# Altium footprint library Weather_PcbLib1.PcbLib: 20 footprints (part 1 of 2)
Each footprint in its own frame and in the unit in brackets; x right, y up, seen from the top. Pads: shape width x height; smd on the part's side, far side on the other; paste and mask are expansions set on the pad; w line width, h text height; cw(c..) or ccw(c..) is an arc to the next point about the centre after c.
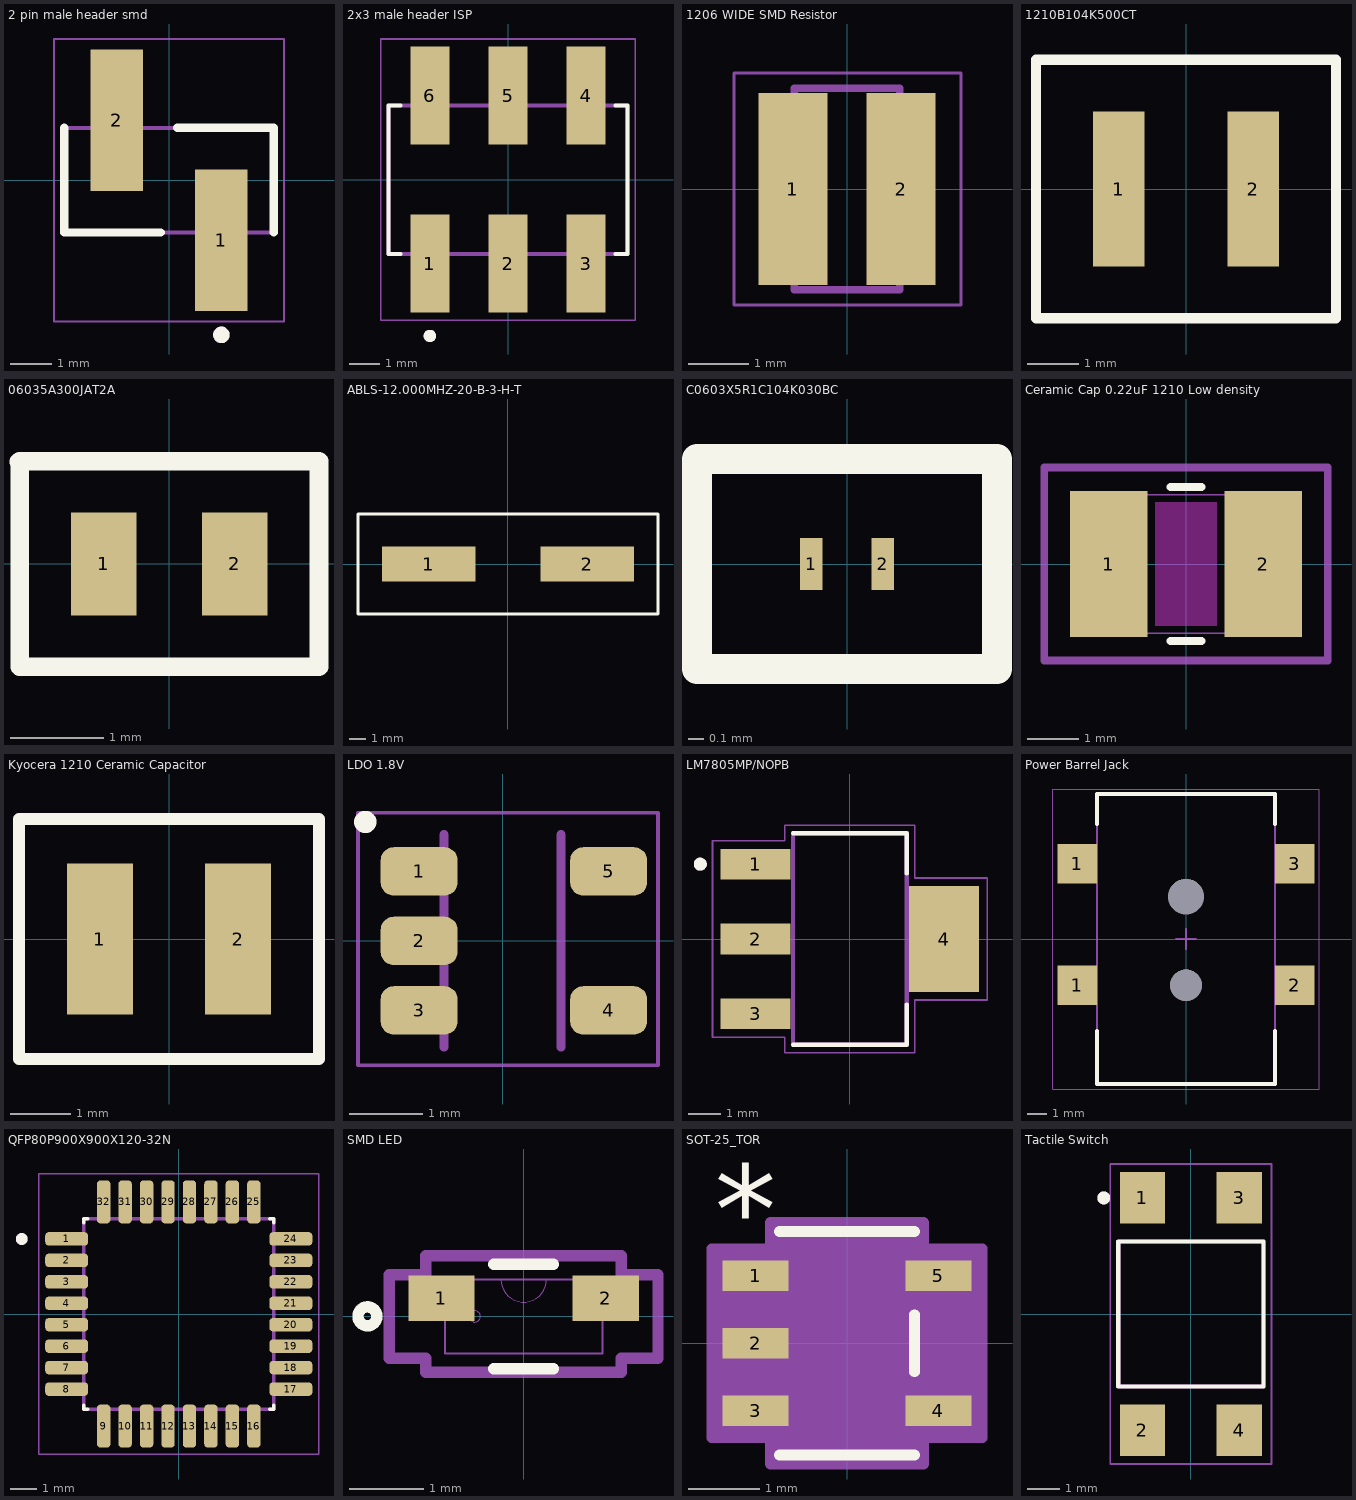
[diagram p0: the footprints below, top view; thin cyan lines are the x and y axes]

## 2 pin male header smd [mm] "SAMTEC_TSM-102-01-X-SV"
pads (2):
  rect 1.27x3.43 smd: 1(1.27,-1.46) 2(-1.27,1.46)
Top Overlay:
  circle w0.2: c1.27,-3.75 r0.1
  lines w0.2: -2.54,1.27 -2.54,-1.27 -0.2,-1.27 ; 0.2,1.27 2.54,1.27 2.54,-1.27
Mechanical 13:
  circle w0.2: c1.27,-3.75 r0.1
  lines w0.1: -2.54,-1.27 2.54,-1.27 2.54,1.27 -2.54,1.27 -2.54,-1.27
Mechanical 15:
  lines w0.05: -2.79,-3.425 2.79,-3.425 2.79,3.425 -2.79,3.425 -2.79,-3.425
3D body "TSM-102-01-T-SV-TR.stp": height 9.66, standoff 0.01, extent -2.54,-2.642 2.54,2.642

## 2x3 male header ISP [mm] "AMPHENOL_10125394-T0803ALF"
height 9.85
pads (6):
  rect 1.27x3.18 smd: 1(-2.54,-2.73) 2(0,-2.73) 3(2.54,-2.73) 4(2.54,2.73) 5(0,2.73) 6(-2.54,2.73)
Top Overlay:
  circle w0.2: c-2.54,-5.08 r0.1
  lines w0.127: -3.495,-2.415 -3.89,-2.415 -3.89,2.415 -3.495,2.415 ; 3.495,-2.415 3.89,-2.415 3.89,2.415 3.495,2.415
Mechanical 13:
  circle w0.2: c-2.54,-5.08 r0.1
  lines w0.127: -3.89,-2.415 -3.89,2.415 3.89,2.415 3.89,-2.415 -3.89,-2.415
Mechanical 15:
  lines w0.05: -4.14,-4.57 -4.14,4.57 4.14,4.57 4.14,-4.57 -4.14,-4.57
3D body "step_temp.STEP": height 9.69, standoff -0.17, extent -3.81,-3.683 3.81,3.683

## 1206 WIDE SMD Resistor [mm] "RESC1632X65N"
pads (2):
  rect 1.15x3.2 smd: 1(-0.9,0) 2(0.9,0)
Mechanical 13:
  lines w0.127: -0.88,-1.68 -0.88,1.68 0.88,1.68 0.88,-1.68 -0.88,-1.68
Mechanical 15:
  lines w0.05: -1.88,-1.935 -1.88,1.935 1.9,1.935 1.9,-1.935 -1.88,-1.935
3D body "LTR18EZPF6200.STEP": height 0.66, standoff 0.01, extent -0.8,-1.6 0.8,1.6

## 1210B104K500CT [mm]
pads (2):
  rect 1x3 smd: 1(-1.3,0) 2(1.3,0)
Top Overlay:
  lines w0.2: -2.9,-2.5 2.9,-2.5 2.9,2.5 -2.9,2.5 -2.9,0 -2.9,-2.5
3D body "1210B104K500CT.STEP": height 1.06, standoff 0.01, extent -1.6,-1.25 1.6,1.25

## 06035A300JAT2A [mm]
pads (2):
  rect 0.7x1.1 smd: 1(-0.7,0) 2(0.7,0)
Top Overlay:
  lines w0.2: -1.607,1.093 -1.6,1.1 ; -1.6,1.1 -1.6,0 -1.6,-1.1 1.6,-1.1 1.6,1.1 -1.6,1.1
3D body "06035A300JAT2A.STEP": height 0.91, standoff 0.01, extent -0.8,-0.405 0.8,0.405

## ABLS-12.000MHZ-20-B-3-H-T [mm]
pads (2):
  rect 5.6x2.1 smd: 1(-4.75,0) 2(4.75,0)
Top Overlay:
  lines w0.2: -9,-3 9,-3 9,3 -9,3 -9,0 -9,-3
3D body "ABLS-12.000MHZ-20-B-3-H-T--3DModel-STEP-400430.STEP": height 4.18, standoff 0.01, extent -6.35,-2.349 6.35,2.349

## C0603X5R1C104K030BC [mm]
pads (2):
  rect 0.15x0.35 smd: 1(-0.24,0) 2(0.24,0)
Top Overlay:
  lines w0.2: -1,-0.7 -1,0 -1,0.7 1,0.7 1,-0.7 -1,-0.7

## Ceramic Cap 0.22uF 1210 Low density [mil] "CAPC340270_100N_KEM-M"
pads (2):
  rect 59.4x112 smd paste+0 mask+0: 1(-59.23,0) 2(59.23,0)
Top Layer keep-out:
  region: -23.62,-47.24 -23.62,47.24 23.62,47.24 23.62,-47.24
Top Overlay:
  lines w6: -11.81,-59.06 11.81,-59.06 ; -11.81,59.06 11.81,59.06
Keep-Out Layer:
  region: -23.62,-47.24 -23.62,47.24 23.62,47.24 23.62,-47.24
Mechanical 13:
  lines w1: -66.93,-53.15 -66.93,53.15 ; -66.93,-53.15 -37.4,-53.15 -37.4,53.15 -66.93,53.15 ; -66.93,-53.15 66.93,-53.15 ; -66.93,-53.15 -66.93,53.15 ; -66.93,53.15 66.93,53.15 ; 66.93,-53.15 37.4,-53.15 37.4,53.15 66.93,53.15 ; 66.93,-53.15 66.93,53.15 ; 66.93,-53.15 66.93,53.15
Mechanical 15:
  lines w6: -108.93,-74.15 -108.93,74.15 108.93,74.15 108.93,-74.15 -108.93,-74.15
3D body "CAPC340270_100N_KEM.step": height 39.37, standoff 0, extent -66.93,-53.15 66.93,53.15

## Kyocera 1210 Ceramic Capacitor [mm]
pads (2):
  rect 1.1x2.51 smd: 1(-1.15,0) 2(1.15,0)
Top Overlay:
  lines w0.2: -2.5,-2 2.5,-2 2.5,2 -2.5,2 -2.5,0 -2.5,-2
3D body "RC1206FR-0710KL.STEP": height 0.66, standoff 0.01, extent -1.55,-0.8 1.55,0.8

## LDO 1.8V [mm] "SOT23-5P95_280X145XL45X37N"
pads (5):
  rrect53% 1.05x0.66 smd mask+0.05: 1(-1.14,0.95) 2(-1.14,0) 3(-1.14,-0.95) 4(1.45,-0.95) 5(1.45,0.95)
Top Overlay:
  circle w0.254: c-1.875,1.625 r0.025
Mechanical 13:
  lines w0.127: -0.8,-1.45 -0.8,1.45 ; 0.8,-1.45 0.8,1.45
Mechanical 15:
  lines w0.05: -1.975,-1.7 2.125,-1.7 2.125,1.75 -1.975,1.75 -1.975,-1.7
3D body "MIC5504-1.8YM5-TR.STEP": height 1.45, standoff 0, extent -1.35,-1.45 1.35,1.45

## LM7805MP/NOPB [mm] "Linear Voltage Regulator LM7805"
height 1.8
pads (4):
  rect 2.15x0.95 smd: 1(-2.9,2.3) 2(-2.9,0) 3(-2.9,-2.3)
  rect 2.15x3.25 smd: 4(2.9,0)
Top Overlay:
  circle w0.2: c-4.6,2.3 r0.1
  lines w0.127: -1.75,-3.25 1.75,-3.25 1.75,-2.01 ; -1.75,3.25 1.75,3.25 1.75,2.01
Mechanical 13:
  circle w0.2: c-4.6,2.3 r0.1
  lines w0.127: -1.75,-3.25 -1.75,3.25 1.75,3.25 1.75,-3.25 -1.75,-3.25
Mechanical 15:
  lines w0.05: -4.225,-3.025 -4.225,3.025 -2,3.025 -2,3.5 2,3.5 2,1.875 4.225,1.875 4.225,-1.875 2,-1.875 2,-3.5 -2,-3.5 -2,-3.025 -4.225,-3.025
3D body "step_temp.STEP": height 1.8, standoff 0, extent -3.499,-3.25 3.499,3.25

## Power Barrel Jack [mm] "GCT_DCJ200-05-A-XX-X_REVA"
pads (6):
  rect 2x2 smd: 1(-5.5,-2.35) 1(-5.5,3.8) 2(5.5,-2.35) 3(5.5,3.8)
  round 1.6 hole 1.6 unplated: ""(0,-2.35)
  round 1.8 hole 1.8 unplated: ""(0,2.15)
Top Overlay:
  lines w0.2: -4.5,-4.65 -4.5,-7.35 4.5,-7.35 4.5,-4.65 ; -4.5,5.825 -4.5,7.325 ; -4.5,7.35 4.5,7.35 ; 4.5,5.825 4.5,7.325
Mechanical 13:
  lines w0.1: -0.5,0 0.5,0 ; 0,-0.5 0,0.5 ; -4.5,-7.35 4.5,-7.35 4.5,7.35 -4.5,7.35 -4.5,-7.35
Mechanical 15:
  lines w0.05: -6.756,-7.595 6.756,-7.595 6.756,7.595 -6.756,7.595 -6.756,-7.595
3D body "Download_STP_694106106102_rev1.stp": height 11.01, standoff -1.19, extent -6.25,-7.45 6.25,7.25

## QFP80P900X900X120-32N [mm]
pads (32):
  rrect53% 1.6x0.5 smd mask+0.05: 1(-4.18,2.8) 2(-4.18,2) 3(-4.18,1.2) 4(-4.18,0.4) 5(-4.18,-0.4) 6(-4.18,-1.2) 7(-4.18,-2) 8(-4.18,-2.8) 17(4.18,-2.8) 18(4.18,-2) 19(4.18,-1.2) 20(4.18,-0.4) 21(4.18,0.4) 22(4.18,1.2) 23(4.18,2) 24(4.18,2.8)
  rrect53% 0.5x1.6 smd mask+0.05: 9(-2.8,-4.18) 10(-2,-4.18) 11(-1.2,-4.18) 12(-0.4,-4.18) 13(0.4,-4.18) 14(1.2,-4.18) 15(2,-4.18) 16(2.8,-4.18) 25(2.8,4.18) 26(2,4.18) 27(1.2,4.18) 28(0.4,4.18) 29(-0.4,4.18) 30(-1.2,4.18) 31(-2,4.18) 32(-2.8,4.18)
Top Overlay:
  circle w0.24: c-5.853,2.797 r0.1
  lines w0.127: -3.55,-3.4 -3.55,-3.55 -3.4,-3.55 ; -3.55,3.4 -3.55,3.55 -3.4,3.55 ; 3.4,-3.55 3.55,-3.55 3.55,-3.4 ; 3.4,3.55 3.55,3.55 3.55,3.4
Mechanical 13:
  circle w0.24: c-5.858,2.797 r0.1
  lines w0.127: -3.55,-3.55 -3.55,3.55 3.55,3.55 3.55,-3.55 -3.55,-3.55
Mechanical 15:
  lines w0.05: -5.23,-5.23 -5.23,5.23 5.23,5.23 5.23,-5.23 -5.23,-5.23
3D body "ATMEGA328P-AUR.STEP": height 1.2, standoff 0, extent -4.5,-4.5 4.5,4.5

## SMD LED [mil] "LED_IN-S85_INL"
pads (2):
  rect 35x24 smd paste+0 mask+0: 1(-43.31,9.5) 2(43.31,9.5)
Top Overlay:
  circle w6: c-82.31,0 r5
  lines w6: -15.75,-27.56 15.75,-27.56 ; -15.75,27.56 15.75,27.56
Mechanical 13:
  circle w0: c-25.81,0 r3
  lines w0: -12,19.5 ccw(c0,19.5) 12,19.5
  lines w1: -41.5,-19.5 -41.5,19.5 41.5,19.5 41.5,-19.5 -41.5,-19.5
Mechanical 15:
  lines w6: -70.81,-22 -51.5,-22 -51.5,-29.5 51.5,-29.5 51.5,-22 70.81,-22 70.81,22 51.5,22 51.5,32 -51.5,32 -51.5,22 -70.81,22 -70.81,-22

## SOT-25_TOR [mil]
pads (5):
  rect 36.5x17 smd paste+0 mask+0: 1(-50.75,37.4) 2(-50.75,0) 3(-50.75,-37.4) 4(50.75,-37.4) 5(50.75,37.4)
Top Overlay:
  lines w6: -37.5,-62 37.5,-62 ; -37.5,62 37.5,62 ; 37.5,-15.8 37.5,15.8
  text "*" at -73.25,49.4 h50
Mechanical 13:
  lines w0: -12,57 ccw(c0,57) 12,57
  lines w1: -55,-45.9 -32.5,-45.9 -32.5,-28.9 -55,-28.9 -55,-45.9 ; -55,-8.5 -32.5,-8.5 -32.5,8.5 -55,8.5 -55,-8.5 ; -55,28.9 -32.5,28.9 -32.5,45.9 -55,45.9 -55,28.9 ; -32.5,-57 -32.5,57 32.5,57 32.5,-57 -32.5,-57 ; 32.5,-45.9 55,-45.9 55,-28.9 32.5,-28.9 32.5,-45.9 ; 32.5,28.9 55,28.9 55,45.9 32.5,45.9 32.5,28.9
  text "*" at -35,6.4 h50
Mechanical 15:
  region: 42.5,-67 -42.5,-67 -42.5,-52.4 -75,-52.4 -75,52.4 -42.5,52.4 -42.5,67 42.5,67 42.5,52.4 75,52.4 75,-52.4 42.5,-52.4
  lines w6: -75,-52.4 -75,52.4 -42.5,52.4 -42.5,67 42.5,67 42.5,52.4 75,52.4 75,-52.4 42.5,-52.4 42.5,-67 -42.5,-67 -42.5,-52.4 -75,-52.4
3D body "SOT-25_TOR.step": height 51.1, standoff 0, extent -55,-57.01 55,57.01

## Tactile Switch [mm] "SW_TL3305AF260QG"
pads (4):
  rect 1.4x1.6 smd: 1(-1.5,3.6) 2(-1.5,-3.6) 3(1.5,3.6) 4(1.5,-3.6)
Top Overlay:
  circle w0.2: c-2.7,3.6 r0.1
  lines w0.127: -2.25,-2.25 2.25,-2.25 2.25,2.25 -2.25,2.25 -2.25,-2.25
Mechanical 13:
  circle w0.2: c-2.7,3.6 r0.1
  lines w0.127: -2.25,-2.25 2.25,-2.25 2.25,2.25 -2.25,2.25 -2.25,-2.25
Mechanical 15:
  lines w0.05: -2.5,-4.65 2.5,-4.65 2.5,4.65 -2.5,4.65 -2.5,-4.65
3D body "step_temp.STEP": height 3.8, standoff 0, extent -2.25,-3.75 2.25,3.75